# Altium footprint library Altium-PROT.PcbLib: 29 footprints (part 2 of 2)
Each footprint in its own frame and in the unit in brackets; x right, y up, seen from the top. Pads: shape width x height; smd on the part's side, far side on the other; paste and mask are expansions set on the pad; w line width, h text height; cw(c..) or ccw(c..) is an arc to the next point about the centre after c.
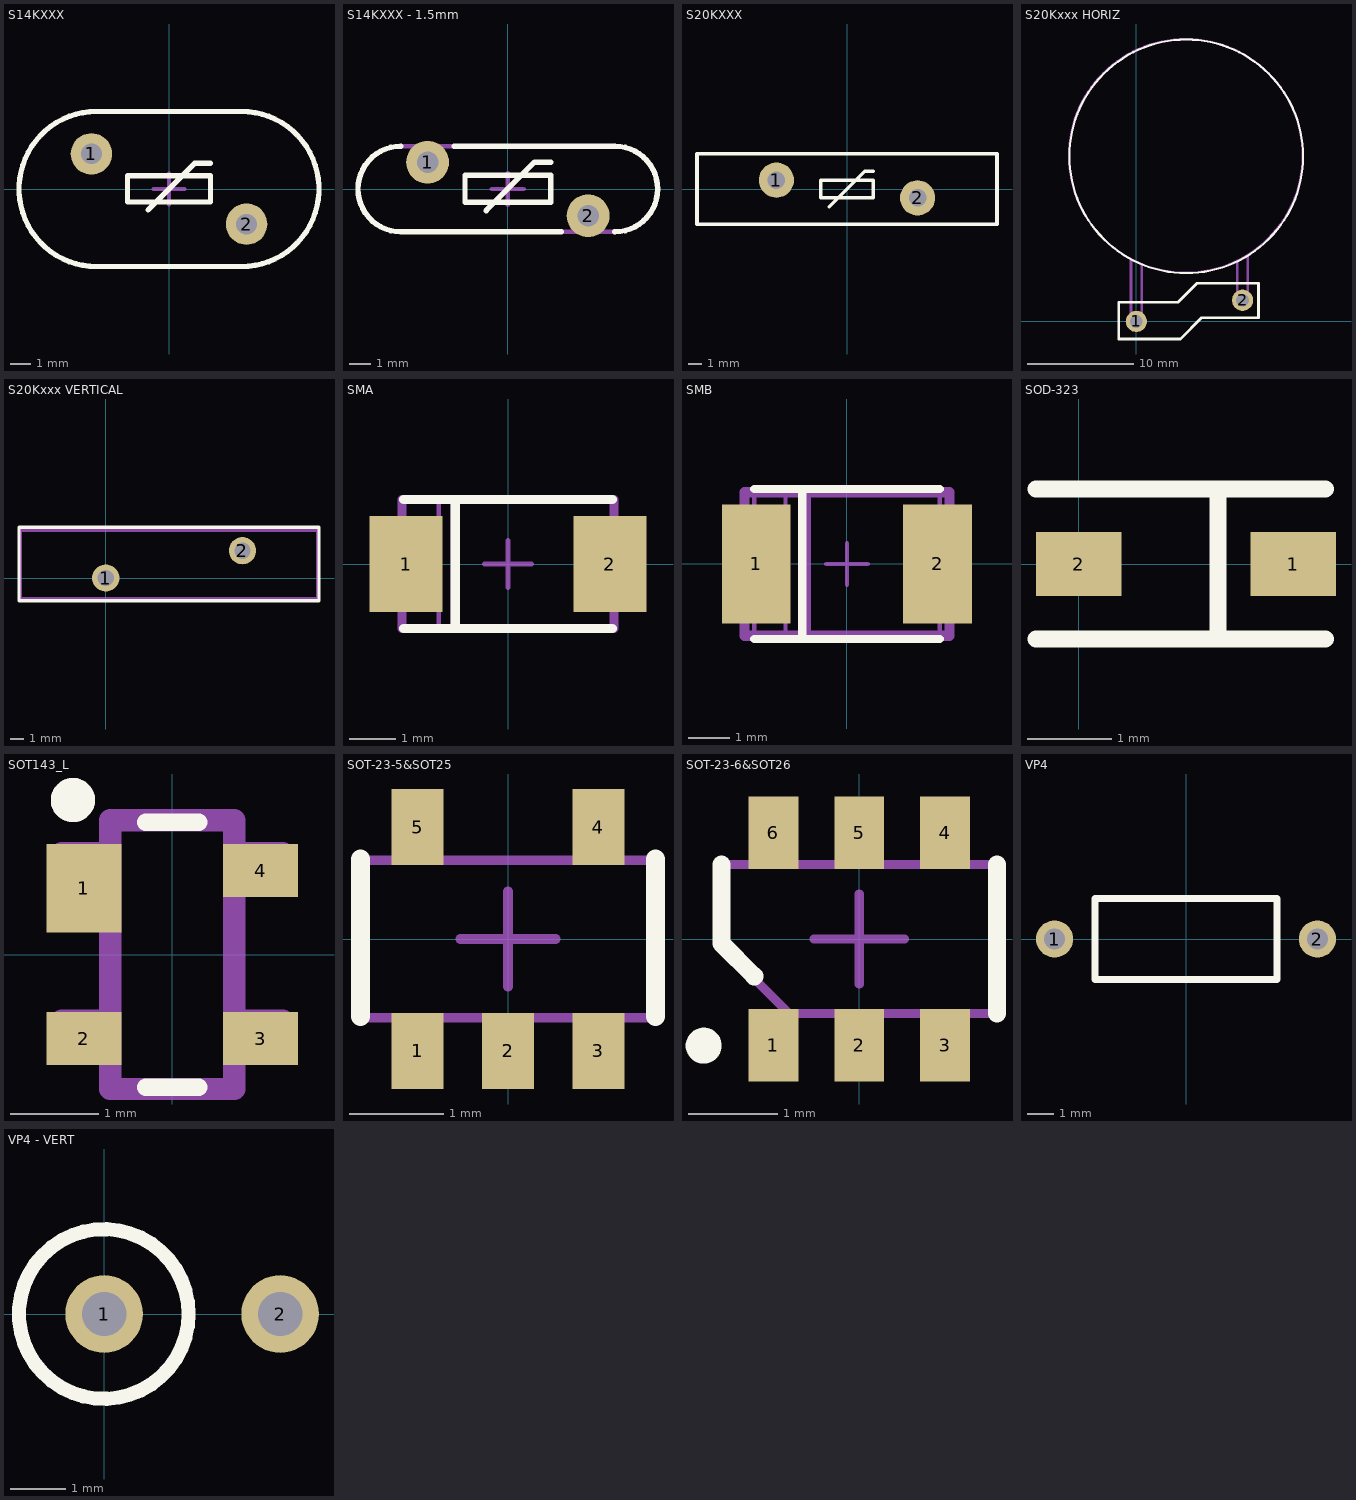
[diagram p1: the footprints below, top view; thin cyan lines are the x and y axes]

## S14KXXX [mm]
pads (2):
  round 2 hole 1: 1(-3.75,1.7) 2(3.75,-1.7)
Top Overlay:
  lines w0.254: -1.015,-1.015 1.25,1.25 2,1.25 ; -3.5,-3.75 cw(c-3.5,0) -3.5,3.75 3.5,3.75 cw(c3.5,0) 3.5,-3.75 -3.5,-3.75 ; -2,-0.625 2,-0.625 2,0.645 -2,0.645 -2,-0.625
Mechanical 15:
  lines w0.2: -0.75,0 0.75,0 ; 0,-0.75 0,0.75
3D body: height 0, standoff 0, extent -7.377,-3.877 8.377,3.877

## S14KXXX - 1.5mm [mm]
height 17
pads (2):
  round 2 hole 1: 1(-3.75,1.25) 2(3.75,-1.25)
Top Overlay:
  lines w0.254: -5,2 ccw(c-5,0) -5,-2 2.5,-2 ; -2.5,2 5,2 cw(c5,0) 5,-2 ; -1.015,-1.015 1.25,1.25 2,1.25 ; -2,-0.625 2,-0.625 2,0.645 -2,0.645 -2,-0.625
Mechanical 13:
  lines w0.2: -5.25,-2 5,-2 ; -5,-2 cw(c-5,0) -5,2 5,2 ; 5,-2.016 ccw(c5,0) 5,2.016
Mechanical 15:
  lines w0.2: -0.75,0 0.75,0 ; 0,-0.75 0,0.75
3D body: height 14, standoff 3, extent -7,-2 7,2

## S20KXXX [mm]
pads (2):
  round 2.54 hole 1.27: 1(-5.08,0.635) 2(5.08,-0.635)
Top Overlay:
  lines w0.254: -1.27,-1.27 1.27,1.27 1.905,1.27 ; -10.795,-2.54 0,-2.54 10.795,-2.54 10.795,2.54 -10.795,2.54 -10.795,-2.54 ; -1.905,-0.635 1.905,-0.635 1.905,0.635 -1.905,0.635 -1.905,-0.635
3D body: height 0, standoff 0, extent -10.794,-2.539 10.794,2.539

## S20Kxxx HORIZ [mm]
pads (2):
  round 2 hole 1.2: 1(0,0) 2(10,2)
Top Overlay:
  circle w0.2: c4.7,15.55 r11
  lines w0.254: -1.65,-1.65 4.15,-1.65 6.15,0.35 11.5,0.35 11.5,3.6 8.65,3.6 5.7,3.6 3.9,1.8 -1.65,1.8 -1.65,-1.65
Mechanical 13:
  circle w0.2: c4.65,15.6 r11
  lines w0.254: -0.5,5.85 -0.5,0 ccw(c0,0) 0.5,0 0.5,5.4 ; 9.5,5.7 9.5,2 ccw(c10,2) 10.5,2 10.5,6.25
  text ".Designator" at 1.125,15.2 h2
3D body: height 8.5, standoff 7.5, extent 9.5,1.7 10.496,7.2
3D body: height 9.5, standoff 8.5, extent -0.5,-0.3 0.496,7.2
3D body: height 11, standoff 6, extent -6.257,4.7 15.657,26.657
3D body: height 9.5, standoff 0, extent -0.498,-0.5 0.498,0.498
3D body: height 8.5, standoff 0, extent 9.5,1.501 10.496,2.499

## S20Kxxx VERTICAL [mm]
pads (2):
  round 2 hole 1.2: 1(0,0) 2(10,2)
Top Overlay:
  lines w0.254: -6.35,-1.65 3.51,-1.65 15.6,-1.65 15.6,3.7 -6.35,3.7 -6.35,-1.65
Mechanical 13:
  lines w0.254: -6.25,-1.5 15.5,-1.5 15.5,3.5 -6.25,3.5 -6.25,-1.5
  text ".Designator" at 0.625,4.95 h2
3D body: height 24.98, standoff 3.02, extent -6.407,-1.5 15.507,3.5
3D body: height 4, standoff 0, extent -0.498,-0.5 0.498,0.498
3D body: height 4, standoff 0, extent 9.5,1.501 10.496,2.499

## SMA [mil] "http://www.vishay.com/docs/95018/sma.pdf"
height 96.06
pads (2):
  rect 62x82 smd mask+4: 1(-87,0) 2(87,0)
Top Overlay:
  lines w8: -89,-55 89,-55 ; -89,55 89,55 ; -45,-55 -45,55
Mechanical 13:
  lines w7.87: -90.55,-55.12 -90.55,55.12 ; 90.55,-55.12 90.55,55.12
  lines w8: -89,-55 89,-55 ; -89,55 89,55 ; -45,-55 -45,55
  text ".Designator" at -81.69,72.83 h78.74
Mechanical 15:
  lines w4: -59,-55 -59,55 ; -20,0 20,0 ; 0,-20 0,20 ; -89,-55 -89,55 89,55 89,-55 -89,-55
3D body: height 87.4, standoff 0, extent -100,-53.15 98.43,53.15

## SMB [mil] "http://www.vishay.com/docs/95017/smb.pdf"
height 94.49
pads (2):
  rect 66x114 smd mask+4: 1(-87,0) 2(87,0)
Top Overlay:
  lines w8: -89,-72 89,-72 ; -89,72 89,72 ; -43,-72 -43,72
Mechanical 13:
  lines w10: -39.37,-68.9 -39.37,68.9 ; -98.43,-68.9 98.43,-68.9 98.43,68.9 -98.43,68.9 -98.43,-68.9
  text ".Designator" at -59.06,88.58 h78.74
Mechanical 15:
  lines w4: -59,-72 -59,72 ; -20,0 20,0 ; 0,-20 0,20 ; -89,-72 -89,72 89,72 89,-72 -89,-72
3D body: height 84.65, standoff 0, extent -104.33,-69.88 104.33,69.88

## SOD-323 [mil]
height 41.34
pads (2):
  rect 40x30 smd: 1(100,0) 2(0,0)
Top Overlay:
  lines w8: -20,-35 115,-35 ; -20,35 115,35 ; 65,-35 65,35
3D body: height 41.34, standoff 0, extent 10,-30 90,30

## SOT143_L [mm] "SOT143, 4-Leads, Body 2.9x1.3mm, Pitch 1.9mm, Lead Span 2.3mm, IPC High Density"
height 1.1
pads (4):
  rect 0.85x1 smd: 1(-1,0.75)
  rect 0.85x0.6 smd: 2(-1,-0.95) 3(1,-0.95) 4(1,0.95)
Top Overlay:
  circle w0.25: c-1.125,1.75 r0.125
  lines w0.2: -0.3,-1.5 0.3,-1.5 ; -0.3,1.5 0.3,1.5
Mechanical 13:
  circle w0.25: c-1.125,1.75 r0.125
  lines w0.254: -0.7,-1.1 -1.25,-1.1 -1.25,-0.75 -0.7,-0.75 ; -0.7,0.4 -1.25,0.4 -1.25,1.15 -0.7,1.15 ; 0.7,-1.1 1.25,-1.1 1.25,-0.75 0.7,-0.75 ; 0.7,0.8 1.25,0.8 1.25,1.15 0.7,1.15 ; -0.7,-1.52 0.7,-1.52 0.7,1.52 -0.7,1.52 -0.7,-1.52
  text ".Designator" at -0.975,2.6 h2
3D body: height 1, standoff -0.1, extent -1.25,-1.5 1.25,1.5

## SOT-23-5&SOT25 [mil] "http://www.nxp.com/acrobat_download/packages/SOT753.pdf"
height 43.31
pads (5):
  rect 22x32 smd mask+4: 1(-38,-47) 2(0,-47) 3(38,-47) 4(38,47) 5(-38,47)
Top Overlay:
  lines w8: -62.01,-32.48 -62.01,33.52 ; 62.01,-32.48 62.01,33.52
Mechanical 15:
  lines w4: -20,0 20,0 ; 0,-20 0,20 ; -61,-33 61,-33 61,33 -61,33 -61,-33
3D body: height 39.37, standoff 0, extent -57.09,-54.13 57.09,54.13

## SOT-23-6&SOT26 [mil] "http://www.nxp.com/acrobat_download/packages/SOT457.pdf"
height 43.31
pads (6):
  rect 22x32 smd mask+4: 1(-38,-47) 2(0,-47) 3(38,-47) 4(38,47) 5(0,47) 6(-38,47)
Top Overlay:
  circle w10: c-68.9,-47.24 r2.95
  lines w4: -61,-3 -61,33
  lines w8: -61,33 -61,-1.99 -46.5,-16.5 ; 61,-33 61,33
Mechanical 15:
  lines w4: -61,-3 -31,-33 61,-33 61,33 -61,33 ; -20,0 20,0 ; 0,-20 0,20
3D body: height 39.37, standoff 0, extent -57.09,-54.13 57.09,54.13

## VP4 [mm]
height 3
pads (2):
  round 1.4 hole 0.8: 1(-4.953,0) 2(4.953,0)
Top Overlay:
  lines w0.254: -3.429,-1.524 -3.429,1.524 3.429,1.524 3.429,-1.524 -3.429,-1.524
3D body: height 2.99, standoff 0, extent -3.429,-1.524 3.571,1.47

## VP4 - VERT [mm]
height 10
pads (2):
  round 1.4 hole 0.8: 1(0,0) 2(3.175,0)
Top Overlay:
  circle w0.254: c-0.005,0 r1.529
3D body: height 8.5, standoff 1.5, extent -1.464,-1.497 1.524,1.497